# Altium footprint library SM_QFN-32Pin_5x5.PcbLib: 1 footprints
Each footprint in its own frame and in the unit in brackets; x right, y up, seen from the top. Pads: shape width x height; smd on the part's side, far side on the other; paste and mask are expansions set on the pad; w line width, h text height; cw(c..) or ccw(c..) is an arc to the next point about the centre after c.
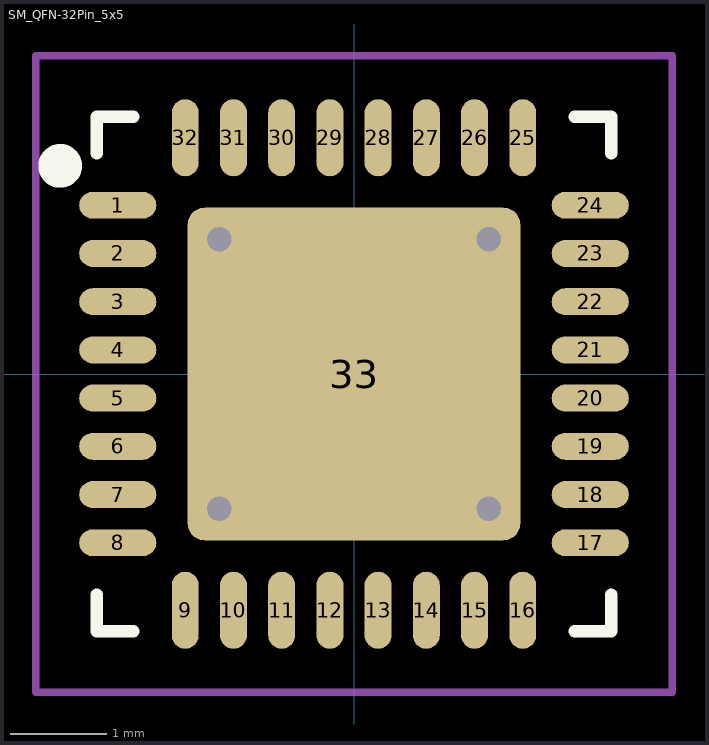
[diagram p0: the footprint, top view; thin cyan lines are the x and y axes]

## SM_QFN-32Pin_5x5 [mm] "QFN 32 Pin 0.5mm Pitch"
height 1
pads (33):
  rrect100% 0.8x0.279 smd paste-2.515 mask-2.515: 1(-2.45,1.75) 2(-2.45,1.25) 3(-2.45,0.75) 4(-2.45,0.25) 5(-2.45,-0.25) 6(-2.45,-0.75) 7(-2.45,-1.25) 8(-2.45,-1.75) 17(2.45,-1.75) 18(2.45,-1.25) 19(2.45,-0.75) 20(2.45,-0.25) 21(2.45,0.25) 22(2.45,0.75) 23(2.45,1.25) 24(2.45,1.75)
  rrect100% 0.279x0.8 smd paste-2.515 mask-2.515: 9(-1.75,-2.45) 10(-1.25,-2.45) 11(-0.75,-2.45) 12(-0.25,-2.45) 13(0.25,-2.45) 14(0.75,-2.45) 15(1.25,-2.45) 16(1.75,-2.45) 25(1.75,2.45) 26(1.25,2.45) 27(0.75,2.45) 28(0.25,2.45) 29(-0.25,2.45) 30(-0.75,2.45) 31(-1.25,2.45) 32(-1.75,2.45)
  rrect10% 3.45x3.45 smd paste-99 mask-25.375: 33(0,0)
via 1.397,1.397 diameter 0.508 hole 0.254
via 1.397,-1.397 diameter 0.508 hole 0.254
via -1.397,1.397 diameter 0.508 hole 0.254
via -1.397,-1.397 diameter 0.508 hole 0.254
Top Overlay:
  circle w0.254: c-3.048,2.159 r0.1
  lines w0.127: -2.667,-2.286 -2.667,-2.667 -2.286,-2.667 ; -2.667,2.286 -2.667,2.667 -2.286,2.667 ; 2.286,-2.667 2.667,-2.667 2.667,-2.286 ; 2.286,2.667 2.667,2.667 2.667,2.286
Top Paste:
  drawing of 41 lines, arcs and shapes, not listed
Top Solder:
  circle w2.54: c0,0 r0.381
  lines w0.635: -2.464,-1.88 -2.464,1.88 ; -1.88,-2.464 1.88,-2.464 ; -1.88,2.464 1.88,2.464 ; 2.464,-1.88 2.464,1.88
Mechanical 15:
  lines w0.076: -0.3,0 0.3,0 ; 0,-0.3 0,0.3 ; -3.3,-3.3 3.3,-3.3 3.3,3.3 -3.3,3.3 -3.3,-3.3
3D body: height 1, standoff 0, extent -2.5,-2.5 2.5,2.5